# Altium footprint library STM32_F4VX_M.PcbLib: 17 footprints (part 2 of 2)
Each footprint in its own frame and in the unit in brackets; x right, y up, seen from the top. Pads: shape width x height; smd on the part's side, far side on the other; paste and mask are expansions set on the pad; w line width, h text height; cw(c..) or ccw(c..) is an arc to the next point about the centre after c.
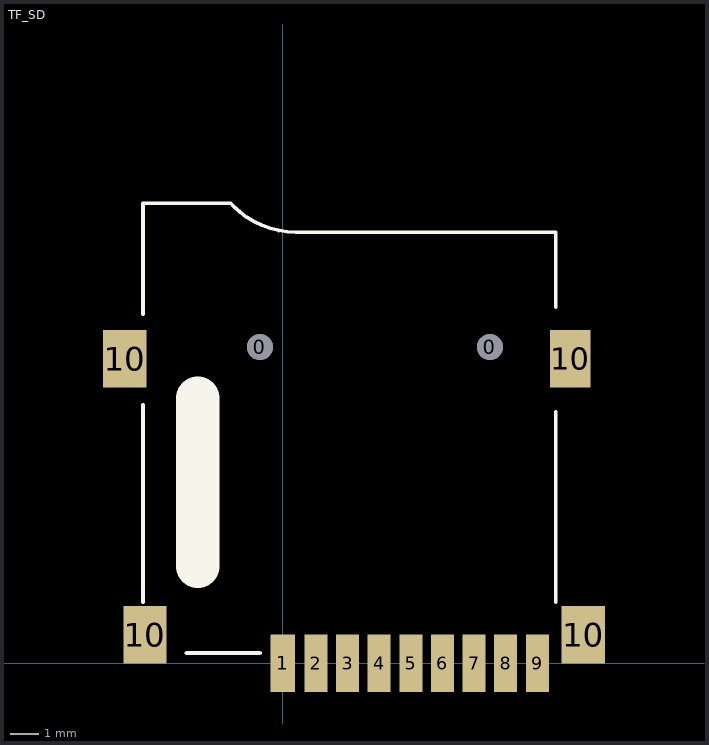
[diagram p1: the footprint, top view; thin cyan lines are the x and y axes]

## TF_SD [mm]
pads (15):
  round 0.9 hole 0.9 unplated: 0(-0.8,11) 0(7.2,11)
  rect 0.85x2 smd: 1(0,0)
  rect 0.8x2 smd: 2(1.15,0) 3(2.25,0) 4(3.35,0) 5(4.45,0) 6(5.55,0) 7(6.65,0) 8(7.75,0) 9(8.85,0)
  rect 1.5x2 smd: 10(-5.5,10.6) 10(-4.8,1) 10(10.45,1)
  rect 1.4x2 smd: 10(10,10.6)
Top Overlay:
  lines w0.127: -4.865,12.143 -4.865,15 ; -4.865,14.683 -4.865,16 -1.816,16 -1.714,15.898 ccw(c0.454,18.066) 0.454,15 1.74,15 9.486,15 9.486,12.397 ; -4.862,2.138 -4.862,8.996 ; 9.489,2.138 9.489,8.742
  lines w0.15: -3.338,0.36 -0.798,0.36
  lines w1.5: -2.959,3.38 -2.959,9.222